# EAGLE library part 615008138021 (library SD-kart)
WR-MJ Vertical Plastic 8P8C Modular Jack, 8 pins=>Code : Con_I-O_MJ-V_Plastic_615008138021 <http://katalog.we-online.de/media/images/eican/Con_I-O_MJ-V_Plastic_615008138021_pf2.jpg> Details see: http://katalog.we-online.de/en/em/MJ_VERTICAL_PLASTIC_8P8C Created 2014-07-10, Karrer Zheng 2014 (C) Würth Elektronik
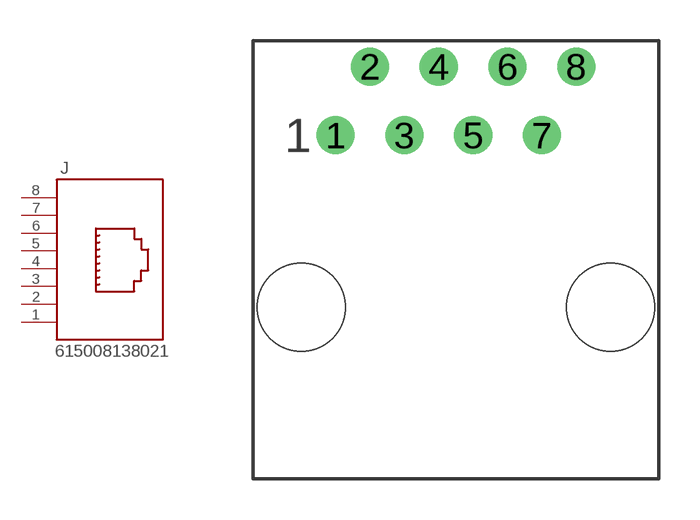
[diagram p104: symbol with the pads of 615008138021; footprint 615008138021]

Designator prefix J

## 615008138021  [615008138021]
1  1  pas
2  2  pas
3  3  pas
4  4  pas
5  5  pas
6  6  pas
7  7  pas
8  8  pas

## Footprint 615008138021 (pad centres in mm)
WR-MJ Vertical Plastic 8P8C Modular Jack, 8 pins
drill 0.9: 1 -4.445,-1.27; 2 -3.175,1.27; 3 -1.905,-1.27; 4 -0.635,1.27; 5 0.635,-1.27; 6 1.905,1.27; 7 3.175,-1.27; 8 4.445,1.27
hole 3.25 at -5.715,-7.62
hole 3.25 at 5.715,-7.62